# Altium footprint library RES10W.PcbLib: 1 footprints
Each footprint in its own frame and in the unit in brackets; x right, y up, seen from the top. Pads: shape width x height; smd on the part's side, far side on the other; paste and mask are expansions set on the pad; w line width, h text height; cw(c..) or ccw(c..) is an arc to the next point about the centre after c.
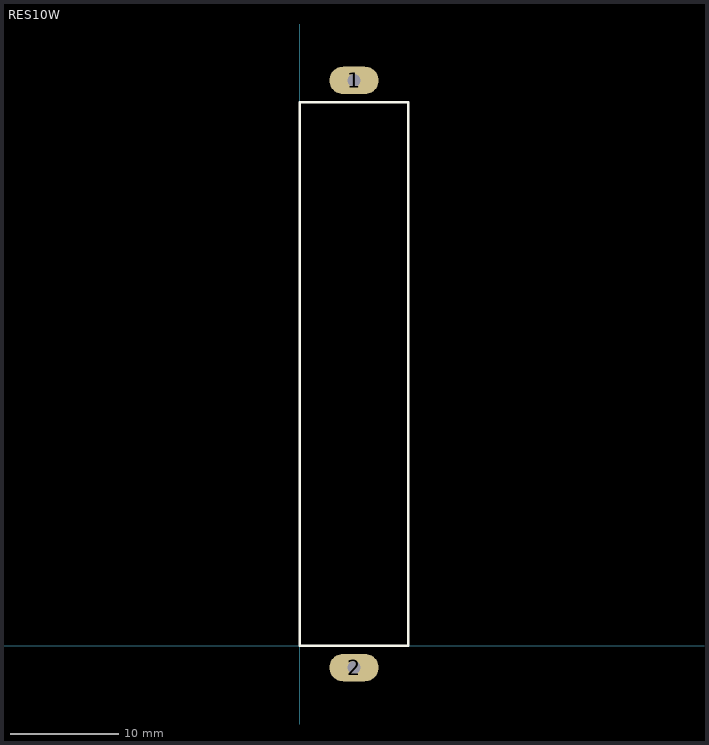
[diagram p0: the footprint, top view; thin cyan lines are the x and y axes]

## RES10W [mm]
pads (2):
  oval 4.524x2.524 hole 1.2: 1(5,52) 2(5,-2)
Top Overlay:
  lines w0.254: 0,0 10,0 10,50 0,50 0,0